# EAGLE library part DG412DJZ (library Intersil_By_element14_Batch_1)
CMOS Analog switches
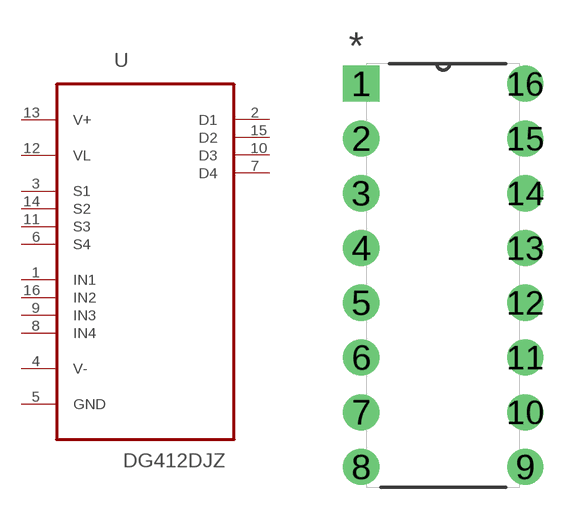
[diagram p39: symbol with the pads of DIP254P762X533-16; footprint DIP254P762X533-16]

Designator prefix U

## DG412DJZ (MPN: DG412DJZ; OC_FARNELL: 1561997; OC_NEWARK: 79K6183; PACKAGE: PDIP-16; SUPPLIER: INTERSIL)  [DIP254P762X533-16]
1  IN1  in
2  D1  out
3  S1  in
4  V-  pwr
5  GND  pas
6  S4  in
7  D4  out
8  IN4  in
9  IN3  in
10  D3  out
11  S3  in
12  VL  pwr
13  V+  pwr
14  S2  in
15  D2  out
16  IN2  in

## Footprint DIP254P762X533-16 (pad centres in mm)
drill 1.118 square: 1 -7.62,17.78
drill 1.118: 2 -7.62,15.24; 3 -7.62,12.7; 4 -7.62,10.16; 5 -7.62,7.62; 6 -7.62,5.08; 7 -7.62,2.54; 8 -7.62,0; 9 0,0; 10 0,2.54; 11 0,5.08; 12 0,7.62; 13 0,10.16; 14 0,12.7; 15 0,15.24; 16 0,17.78